# Altium integrated library Maxim Digital Potentiometers.IntLib: 1045 symbols (part 42 of 42)
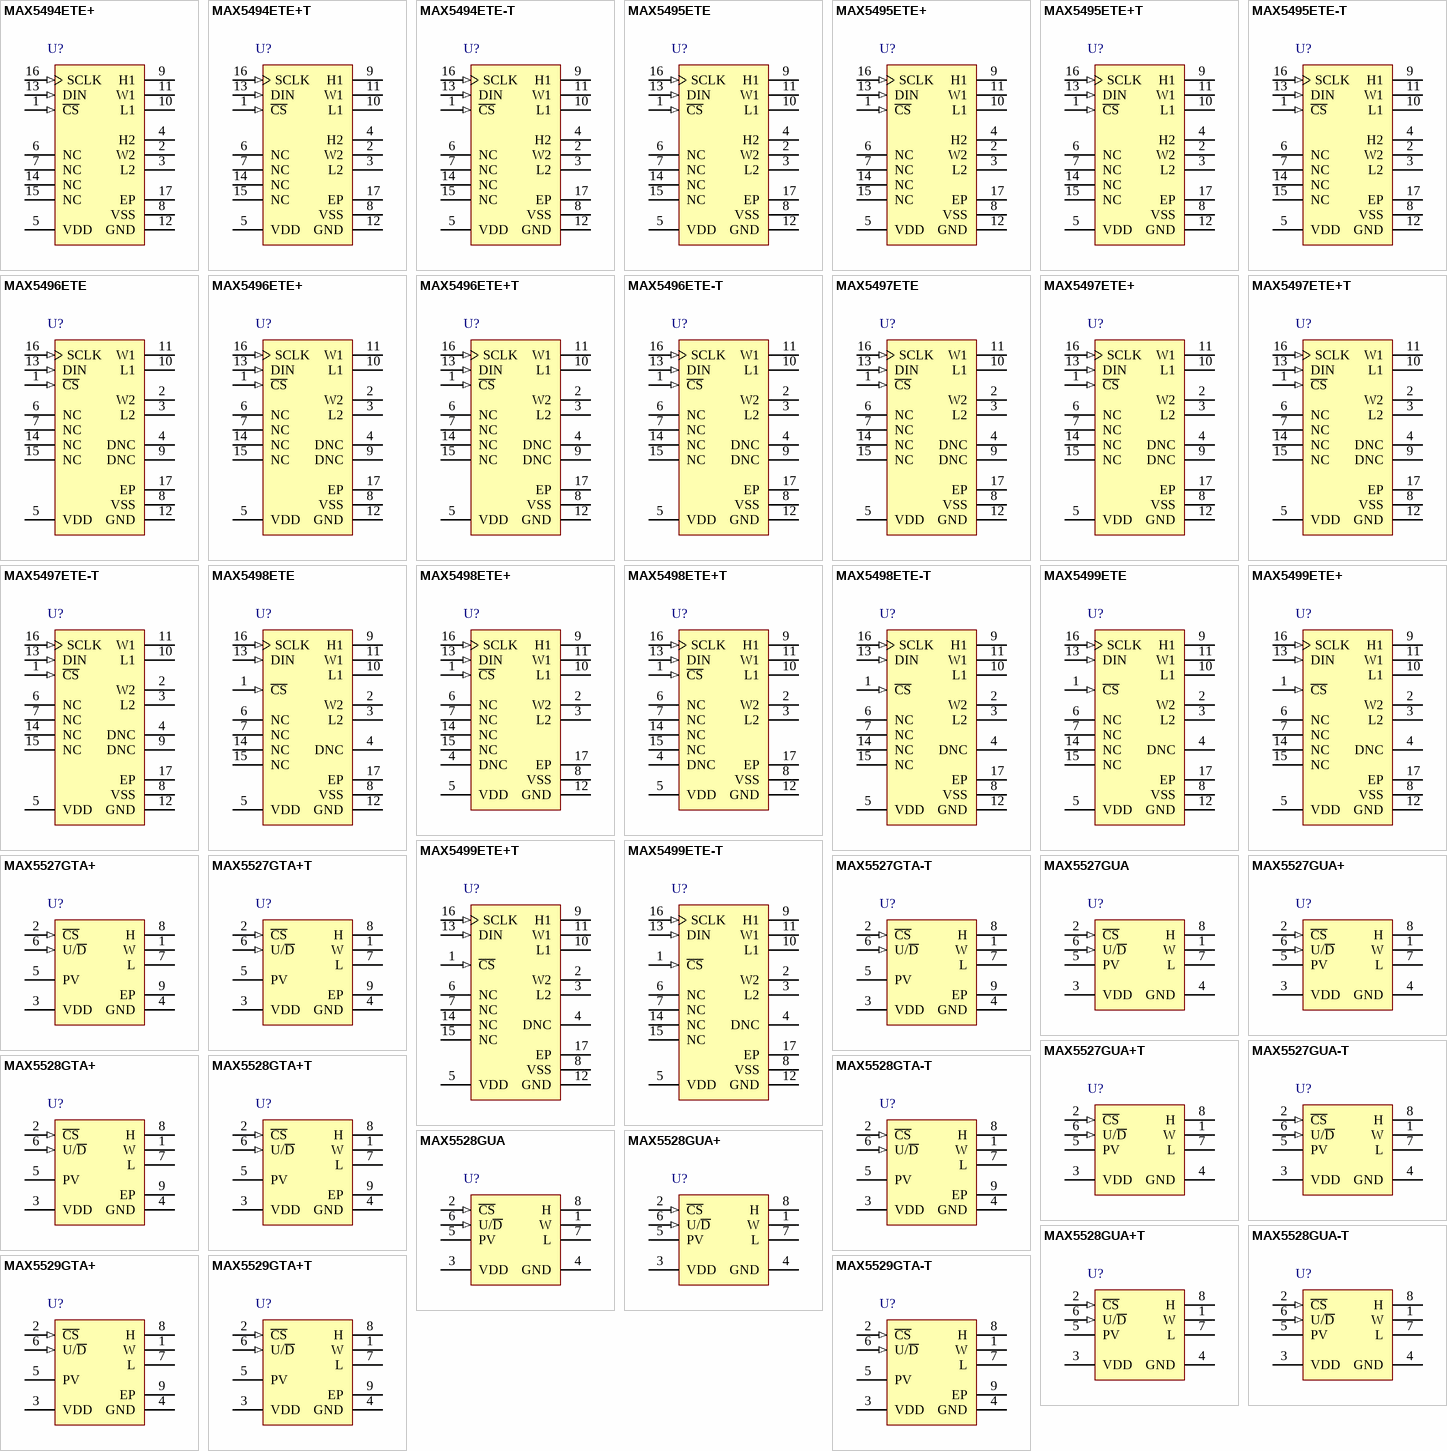
[diagram p70: symbols MAX5494ETE+ to MAX5529GTA-T]

## MAX5528GTA+
designator U?
50k Digital Potentiometer with Up/Down Control Interface, Non-Volatile OTP, Linear Taper, 64 Steps, 0 to 85 degC, 8-pin TDFN-EP (T833+2), Pb-Free,; PartNumber: MAX5528GTA+; DatasheetVersion: Rev. 1; PackageVersion: Rev. J, 08/2009; PackageReference: T833+2; PackageDescription: 8-Pin Plastic Very Very Thin Dual Flatpack No Leads, Exposed Pad (T833+2); Supplier 1: Mouser; Supplier Part Number 1: N/A; Control Interface: Up/Down; Features: One Time Programmable; Mounting Technology: Surface Mount; Code_JEDEC: MO229; ComponentLink1Description: Manufacturer URL; ComponentLink1URL: http://www.maximintegrated.com/; ComponentLink2Description: Datasheet; ComponentLink2URL: http://datasheets.maximintegrated.com/en/ds/MAX5527-MAX5529.pdf; ComponentLink3Description: Package Specification; ComponentLink3URL: http://pdfserv.maximintegrated.com/package_dwgs/21-0137.PDF
footprint MAXM-T833+2_V (SON, 8-Leads, Body 3x3 mm, Pitch 0.65mm, Thermal Pad 2.3x1.5mm)
pins: 1 W "Wiper Connection", 2 ~{CS} (in) "Chip-Select Input. A high-to-low C\S\ transition determines the increment/decrement mode. Increment if U/D\ is high, or decrement if U/D\ is low. C\S\ is also used for one-time programming. See the PV One- Time Programming (See Datasheet)", 3 VDD (power) "Supply Voltage. Bypass with a 0.1uF capacitor to GND.", 4 GND (power) "Ground", 5 PV "One-Time Programming Voltage. Connect PV to an 11V supply at the time the device is programmed/locked, and bypass with a 22uF capacitor to GND. For normal operation, connect to GND or leave floating.", 6 U/~{D} (in) "Up/Down Control Input. When C\S\ is low, a low-to-high transition at U/D\ increments or decrements the wiper position. See the Digital Interface Operation section.", 7 L "Resistor Low Terminal", 8 H "Resistor High Terminal", 9 EP (power) "Exposed Pad (TDFN Only). Internally connected to GND. Connect to a large ground plane to maximize thermal dissipation."

## MAX5528GTA+T
designator U?
50k Digital Potentiometer with Up/Down Control Interface, Non-Volatile OTP, Linear Taper, 64 Steps, 0 to 85 degC, 8-pin TDFN-EP (T833+2), Pb-Free, Tape and Reel; PartNumber: MAX5528GTA+T; DatasheetVersion: Rev. 1; PackageVersion: Rev. J, 08/2009; PackageReference: T833+2; PackageDescription: 8-Pin Plastic Very Very Thin Dual Flatpack No Leads, Exposed Pad (T833+2); Supplier 1: Digi-Key; Supplier Part Number 1: MAX5528GTA+T-ND; Supplier 2: Mouser; Supplier Part Number 2: 700-MAX5528GTAT; Control Interface: Up/Down; Features: One Time Programmable; Mounting Technology: Surface Mount; Code_JEDEC: MO229; ComponentLink1Description: Manufacturer URL; ComponentLink1URL: http://www.maximintegrated.com/; ComponentLink2Description: Datasheet; ComponentLink2URL: http://datasheets.maximintegrated.com/en/ds/MAX5527-MAX5529.pdf; ComponentLink3Description: Package Specification; ComponentLink3URL: http://pdfserv.maximintegrated.com/package_dwgs/21-0137.PDF
footprint MAXM-T833+2_V (SON, 8-Leads, Body 3x3 mm, Pitch 0.65mm, Thermal Pad 2.3x1.5mm)
pins: 1 W "Wiper Connection", 2 ~{CS} (in) "Chip-Select Input. A high-to-low C\S\ transition determines the increment/decrement mode. Increment if U/D\ is high, or decrement if U/D\ is low. C\S\ is also used for one-time programming. See the PV One- Time Programming (See Datasheet)", 3 VDD (power) "Supply Voltage. Bypass with a 0.1uF capacitor to GND.", 4 GND (power) "Ground", 5 PV "One-Time Programming Voltage. Connect PV to an 11V supply at the time the device is programmed/locked, and bypass with a 22uF capacitor to GND. For normal operation, connect to GND or leave floating.", 6 U/~{D} (in) "Up/Down Control Input. When C\S\ is low, a low-to-high transition at U/D\ increments or decrements the wiper position. See the Digital Interface Operation section.", 7 L "Resistor Low Terminal", 8 H "Resistor High Terminal", 9 EP (power) "Exposed Pad (TDFN Only). Internally connected to GND. Connect to a large ground plane to maximize thermal dissipation."

## MAX5528GTA-T
designator U?
50k Digital Potentiometer with Up/Down Control Interface, Non-Volatile OTP, Linear Taper, 64 Steps, 0 to 85 degC, 8-pin TDFN-EP (T833-2), Tape and Reel; PartNumber: MAX5528GTA-T; DatasheetVersion: Rev. 1; PackageVersion: Rev. J, 08/2009; PackageReference: T833-2; PackageDescription: 8-Pin Plastic Very Very Thin Dual Flatpack No Leads, Exposed Pad, Body 3 x 3 mm, Pitch 0.65 mm; Supplier 1: Mouser; Supplier Part Number 1: N/A; Control Interface: Up/Down; Features: One Time Programmable; Mounting Technology: Surface Mount; Code_JEDEC: MO229; ComponentLink1Description: Manufacturer URL; ComponentLink1URL: http://www.maximintegrated.com/; ComponentLink2Description: Datasheet; ComponentLink2URL: http://datasheets.maximintegrated.com/en/ds/MAX5527-MAX5529.pdf; ComponentLink3Description: Package Specification; ComponentLink3URL: http://pdfserv.maximintegrated.com/package_dwgs/21-0137.PDF
footprint MAXM-T833-2_V (SON, 8-Leads, Body 3x3mm, Pitch 0.65mm, Thermal Pad 2.3x1.5mm, Recommended)
pins: 1 W "Wiper Connection", 2 ~{CS} (in) "Chip-Select Input. A high-to-low C\S\ transition determines the increment/decrement mode. Increment if U/D\ is high, or decrement if U/D\ is low. C\S\ is also used for one-time programming. See the PV One- Time Programming (See Datasheet)", 3 VDD (power) "Supply Voltage. Bypass with a 0.1uF capacitor to GND.", 4 GND (power) "Ground", 5 PV "One-Time Programming Voltage. Connect PV to an 11V supply at the time the device is programmed/locked, and bypass with a 22uF capacitor to GND. For normal operation, connect to GND or leave floating.", 6 U/~{D} (in) "Up/Down Control Input. When C\S\ is low, a low-to-high transition at U/D\ increments or decrements the wiper position. See the Digital Interface Operation section.", 7 L "Resistor Low Terminal", 8 H "Resistor High Terminal", 9 EP (power) "Exposed Pad (TDFN Only). Internally connected to GND. Connect to a large ground plane to maximize thermal dissipation."

## MAX5528GUA
designator U?
50k Digital Potentiometer with Up/Down Control Interface, Non-Volatile OTP, Linear Taper, 64 Steps, 0 to 85 degC, 8-pin uMAX (U8-1); PartNumber: MAX5528GUA; DatasheetVersion: Rev. 1; PackageVersion: Rev. L, 08/2009; PackageReference: U8-1; PackageDescription: 8-Pin Micro-MAX, Thin Shrink Small-Outline (U8-1), Body 3 x 3 mm, Pitch 0.65mm; Supplier 1: Mouser; Supplier Part Number 1: N/A; Control Interface: Up/Down; Features: One Time Programmable; Mounting Technology: Surface Mount; Code_JEDEC: MO-187; ComponentLink1Description: Manufacturer URL; ComponentLink1URL: http://www.maximintegrated.com/; ComponentLink2Description: Datasheet; ComponentLink2URL: http://datasheets.maximintegrated.com/en/ds/MAX5527-MAX5529.pdf; ComponentLink3Description: Package Specification; ComponentLink3URL: http://pdfserv.maximintegrated.com/package_dwgs/21-0036.PDF
footprint MAXM-U8-1_N (SOP, 8-Leads, Body 3x3mm, Pitch 0.65mm, IPC Medium Density)
footprint MAXM-U8-1_L (SOP, 8-Leads, Body 3x3mm, Pitch 0.65mm, IPC High Density)
footprint MAXM-U8-1_M (SOP, 8-Leads, Body 3x3mm, Pitch 0.65mm, IPC Low Density)
pins: 1 W "Wiper Connection", 2 ~{CS} (in) "Chip-Select Input. A high-to-low C\S\ transition determines the increment/decrement mode. Increment if U/D\ is high, or decrement if U/D\ is low. C\S\ is also used for one-time programming. See the PV One-Time Programming (See Datasheet)", 3 VDD (power) "Supply Voltage. Bypass with a 0.1uF capacitor to GND.", 4 GND (power) "Ground", 5 PV "One-Time Programming Voltage. Connect PV to an 11V supply at the time the device is programmed/locked, and bypass with a 22uF capacitor to GND. For normal operation, connect to GND or leave floating.", 6 U/~{D} (in) "Up/Down Control Input. When C\S\ is low, a low-to-high transition at U/D\ increments or decrements the wiper position. See the Digital Interface Operation section.", 7 L "Resistor Low Terminal", 8 H "Resistor High Terminal"

## MAX5528GUA+
designator U?
50k Digital Potentiometer with Up/Down Control Interface, Non-Volatile OTP, Linear Taper, 64 Steps, 0 to 85 degC, 8-pin uMAX (U8+1), Pb-Free; PartNumber: MAX5528GUA+; DatasheetVersion: Rev. 1; PackageVersion: Rev. L, 08/2009; PackageReference: U8+1; PackageDescription: 8-Pin Micro-MAX, Thin Shrink Small-Outline (U8+1), Body 3 x 3 mm, Pitch 0.65 mm; Supplier 1: Digi-Key; Supplier Part Number 1: MAX5528GUA+-ND; Supplier 2: Mouser; Supplier Part Number 2: 700-MAX5528GUA; Control Interface: Up/Down; Features: One Time Programmable; Mounting Technology: Surface Mount; Code_JEDEC: MO-187; ComponentLink1Description: Manufacturer URL; ComponentLink1URL: http://www.maximintegrated.com/; ComponentLink2Description: Datasheet; ComponentLink2URL: http://datasheets.maximintegrated.com/en/ds/MAX5527-MAX5529.pdf; ComponentLink3Description: Package Specification; ComponentLink3URL: http://pdfserv.maximintegrated.com/package_dwgs/21-0036.PDF
footprint MAXM-U8+1_N (SOP, 8-Leads, Body 3x3mm, Pitch 0.65mm, IPC Medium Density)
footprint MAXM-U8+1_L (SOP, 8-Leads, Body 3x3mm, Pitch 0.65mm, IPC High Density)
footprint MAXM-U8+1_M (SOP, 8-Leads, Body 3x3mm, Pitch 0.65mm, IPC Low Density)
pins: 1 W "Wiper Connection", 2 ~{CS} (in) "Chip-Select Input. A high-to-low C\S\ transition determines the increment/decrement mode. Increment if U/D\ is high, or decrement if U/D\ is low. C\S\ is also used for one-time programming. See the PV One-Time Programming (See Datasheet)", 3 VDD (power) "Supply Voltage. Bypass with a 0.1uF capacitor to GND.", 4 GND (power) "Ground", 5 PV "One-Time Programming Voltage. Connect PV to an 11V supply at the time the device is programmed/locked, and bypass with a 22uF capacitor to GND. For normal operation, connect to GND or leave floating.", 6 U/~{D} (in) "Up/Down Control Input. When C\S\ is low, a low-to-high transition at U/D\ increments or decrements the wiper position. See the Digital Interface Operation section.", 7 L "Resistor Low Terminal", 8 H "Resistor High Terminal"

## MAX5528GUA+T
designator U?
50k One-Time-Programmable Digital Potentiometer with Up/Down Control Interface, Non-Volatile OTP, Linear Taper, 64 Steps, 0 to 85 degC, 8-pin uMAX (U8+1), Pb-Free, Tape and Reel; PartNumber: MAX5528GUA+T; DatasheetVersion: Rev. 1; PackageVersion: Rev. L, 08/2009; PackageReference: U8+1; PackageDescription: 8-Pin Micro-MAX, Thin Shrink Small-Outline (U8+1), Body 3 x 3 mm, Pitch 0.65 mm; Supplier 1: Digi-Key; Supplier Part Number 1: MAX5528GUA+T-ND; Supplier 2: Mouser; Supplier Part Number 2: 700-MAX5528GUAT; Control Interface: Up/Down; Features: One Time Programmable; Mounting Technology: Surface Mount; Code_JEDEC: MO-187; ComponentLink1Description: Manufacturer URL; ComponentLink1URL: http://www.maximintegrated.com/; ComponentLink2Description: Datasheet; ComponentLink2URL: http://datasheets.maximintegrated.com/en/ds/MAX5527-MAX5529.pdf; ComponentLink3Description: Package Specification; ComponentLink3URL: http://pdfserv.maximintegrated.com/package_dwgs/21-0036.PDF
footprint MAXM-U8+1_N (SOP, 8-Leads, Body 3x3mm, Pitch 0.65mm, IPC Medium Density)
footprint MAXM-U8+1_L (SOP, 8-Leads, Body 3x3mm, Pitch 0.65mm, IPC High Density)
footprint MAXM-U8+1_M (SOP, 8-Leads, Body 3x3mm, Pitch 0.65mm, IPC Low Density)
pins: 1 W "Wiper Connection", 2 ~{CS} (in) "Chip-Select Input. A high-to-low C\S\ transition determines the increment/decrement mode. Increment if U/D\ is high, or decrement if U/D\ is low. C\S\ is also used for one-time programming. See the PV One-Time Programming (See Datasheet)", 3 VDD (power) "Supply Voltage. Bypass with a 0.1uF capacitor to GND.", 4 GND (power) "Ground", 5 PV "One-Time Programming Voltage. Connect PV to an 11V supply at the time the device is programmed/locked, and bypass with a 22uF capacitor to GND. For normal operation, connect to GND or leave floating.", 6 U/~{D} (in) "Up/Down Control Input. When C\S\ is low, a low-to-high transition at U/D\ increments or decrements the wiper position. See the Digital Interface Operation section.", 7 L "Resistor Low Terminal", 8 H "Resistor High Terminal"

## MAX5528GUA-T
designator U?
50k One-Time-Programmable Digital Potentiometer with Up/Down Control Interface, Non-Volatile OTP, Linear Taper, 64 Steps, 0 to 85 degC, 8-pin uMAX (U8-1), Tape and Reel; PartNumber: MAX5528GUA-T; DatasheetVersion: Rev. 1; PackageVersion: Rev. L, 08/2009; PackageReference: U8-1; PackageDescription: 8-Pin Micro-MAX, Thin Shrink Small-Outline (U8-1), Body 3 x 3 mm, Pitch 0.65mm; Supplier 1: Mouser; Supplier Part Number 1: N/A; Control Interface: Up/Down; Features: One Time Programmable; Mounting Technology: Surface Mount; Code_JEDEC: MO-187; ComponentLink1Description: Manufacturer URL; ComponentLink1URL: http://www.maximintegrated.com/; ComponentLink2Description: Datasheet; ComponentLink2URL: http://datasheets.maximintegrated.com/en/ds/MAX5527-MAX5529.pdf; ComponentLink3Description: Package Specification; ComponentLink3URL: http://pdfserv.maximintegrated.com/package_dwgs/21-0036.PDF
footprint MAXM-U8-1_N (SOP, 8-Leads, Body 3x3mm, Pitch 0.65mm, IPC Medium Density)
footprint MAXM-U8-1_L (SOP, 8-Leads, Body 3x3mm, Pitch 0.65mm, IPC High Density)
footprint MAXM-U8-1_M (SOP, 8-Leads, Body 3x3mm, Pitch 0.65mm, IPC Low Density)
pins: 1 W "Wiper Connection", 2 ~{CS} (in) "Chip-Select Input. A high-to-low C\S\ transition determines the increment/decrement mode. Increment if U/D\ is high, or decrement if U/D\ is low. C\S\ is also used for one-time programming. See the PV One-Time Programming (See Datasheet)", 3 VDD (power) "Supply Voltage. Bypass with a 0.1uF capacitor to GND.", 4 GND (power) "Ground", 5 PV "One-Time Programming Voltage. Connect PV to an 11V supply at the time the device is programmed/locked, and bypass with a 22uF capacitor to GND. For normal operation, connect to GND or leave floating.", 6 U/~{D} (in) "Up/Down Control Input. When C\S\ is low, a low-to-high transition at U/D\ increments or decrements the wiper position. See the Digital Interface Operation section.", 7 L "Resistor Low Terminal", 8 H "Resistor High Terminal"

## MAX5529GTA+
designator U?
10k Digital Potentiometer with Up/Down Control Interface, Non-Volatile OTP, Linear Taper, 64 Steps, 0 to 85 degC, 8-pin TDFN-EP (T833+2), Pb-Free; PartNumber: MAX5529GTA+; Industry Qualified: Automotive - AECQ100, Automotive - General; DatasheetVersion: Rev. 1; PackageVersion: Rev. J, 08/2009; PackageReference: T833+2; PackageDescription: 8-Pin Plastic Very Very Thin Dual Flatpack No Leads, Exposed Pad (T833+2); Supplier 1: Mouser; Supplier Part Number 1: N/A; Control Interface: Up/Down; Features: One Time Programmable; Mounting Technology: Surface Mount; Code_JEDEC: MO229; ComponentLink1Description: Manufacturer URL; ComponentLink1URL: http://www.maximintegrated.com/; ComponentLink2Description: Datasheet; ComponentLink2URL: http://datasheets.maximintegrated.com/en/ds/MAX5527-MAX5529.pdf; ComponentLink3Description: Package Specification; ComponentLink3URL: http://pdfserv.maximintegrated.com/package_dwgs/21-0137.PDF
footprint MAXM-T833+2_V (SON, 8-Leads, Body 3x3 mm, Pitch 0.65mm, Thermal Pad 2.3x1.5mm)
pins: 1 W "Wiper Connection", 2 ~{CS} (in) "Chip-Select Input. A high-to-low C\S\ transition determines the increment/decrement mode. Increment if U/D\ is high, or decrement if U/D\ is low. C\S\ is also used for one-time programming. See the PV One- Time Programming (See Datasheet)", 3 VDD (power) "Supply Voltage. Bypass with a 0.1uF capacitor to GND.", 4 GND (power) "Ground", 5 PV "One-Time Programming Voltage. Connect PV to an 11V supply at the time the device is programmed/locked, and bypass with a 22uF capacitor to GND. For normal operation, connect to GND or leave floating.", 6 U/~{D} (in) "Up/Down Control Input. When C\S\ is low, a low-to-high transition at U/D\ increments or decrements the wiper position. See the Digital Interface Operation section.", 7 L "Resistor Low Terminal", 8 H "Resistor High Terminal", 9 EP (power) "Exposed Pad (TDFN Only). Internally connected to GND. Connect to a large ground plane to maximize thermal dissipation."

## MAX5529GTA+T
designator U?
10k Digital Potentiometer with Up/Down Control Interface, Non-Volatile OTP, Linear Taper, 64 Steps, 0 to 85 degC, 8-pin TDFN-EP (T833+2), Pb-Free, Tape and Reel; PartNumber: MAX5529GTA+T; Industry Qualified: Automotive - AECQ100, Automotive - General; DatasheetVersion: Rev. 1; PackageVersion: Rev. J, 08/2009; PackageReference: T833+2; PackageDescription: 8-Pin Plastic Very Very Thin Dual Flatpack No Leads, Exposed Pad (T833+2); Supplier 1: Digi-Key; Supplier Part Number 1: MAX5529GTA+T-ND; Supplier 2: Mouser; Supplier Part Number 2: 700-MAX5529GTAT; Control Interface: Up/Down; Features: One Time Programmable; Mounting Technology: Surface Mount; Code_JEDEC: MO229; ComponentLink1Description: Manufacturer URL; ComponentLink1URL: http://www.maximintegrated.com/; ComponentLink2Description: Datasheet; ComponentLink2URL: http://datasheets.maximintegrated.com/en/ds/MAX5527-MAX5529.pdf; ComponentLink3Description: Package Specification; ComponentLink3URL: http://pdfserv.maximintegrated.com/package_dwgs/21-0137.PDF
footprint MAXM-T833+2_V (SON, 8-Leads, Body 3x3 mm, Pitch 0.65mm, Thermal Pad 2.3x1.5mm)
pins: 1 W "Wiper Connection", 2 ~{CS} (in) "Chip-Select Input. A high-to-low C\S\ transition determines the increment/decrement mode. Increment if U/D\ is high, or decrement if U/D\ is low. C\S\ is also used for one-time programming. See the PV One- Time Programming (See Datasheet)", 3 VDD (power) "Supply Voltage. Bypass with a 0.1uF capacitor to GND.", 4 GND (power) "Ground", 5 PV "One-Time Programming Voltage. Connect PV to an 11V supply at the time the device is programmed/locked, and bypass with a 22uF capacitor to GND. For normal operation, connect to GND or leave floating.", 6 U/~{D} (in) "Up/Down Control Input. When C\S\ is low, a low-to-high transition at U/D\ increments or decrements the wiper position. See the Digital Interface Operation section.", 7 L "Resistor Low Terminal", 8 H "Resistor High Terminal", 9 EP (power) "Exposed Pad (TDFN Only). Internally connected to GND. Connect to a large ground plane to maximize thermal dissipation."

## MAX5529GTA-T
designator U?
10k Digital Potentiometer with Up/Down Control Interface, Non-Volatile OTP, Linear Taper, 64 Steps, 0 to 85 degC, 8-pin TDFN-EP (T833-2), Tape and Reel; PartNumber: MAX5529GTA-T; Industry Qualified: Automotive - AECQ100, Automotive - General; DatasheetVersion: Rev. 1; PackageVersion: Rev. J, 08/2009; PackageReference: T833-2; PackageDescription: 8-Pin Plastic Very Very Thin Dual Flatpack No Leads, Exposed Pad, Body 3 x 3 mm, Pitch 0.65 mm; Supplier 1: Mouser; Supplier Part Number 1: N/A; Control Interface: Up/Down; Features: One Time Programmable; Mounting Technology: Surface Mount; Code_JEDEC: MO229; ComponentLink1Description: Manufacturer URL; ComponentLink1URL: http://www.maximintegrated.com/; ComponentLink2Description: Datasheet; ComponentLink2URL: http://datasheets.maximintegrated.com/en/ds/MAX5527-MAX5529.pdf; ComponentLink3Description: Package Specification; ComponentLink3URL: http://pdfserv.maximintegrated.com/package_dwgs/21-0137.PDF
footprint MAXM-T833-2_V (SON, 8-Leads, Body 3x3mm, Pitch 0.65mm, Thermal Pad 2.3x1.5mm, Recommended)
pins: 1 W "Wiper Connection", 2 ~{CS} (in) "Chip-Select Input. A high-to-low C\S\ transition determines the increment/decrement mode. Increment if U/D\ is high, or decrement if U/D\ is low. C\S\ is also used for one-time programming. See the PV One- Time Programming (See Datasheet)", 3 VDD (power) "Supply Voltage. Bypass with a 0.1uF capacitor to GND.", 4 GND (power) "Ground", 5 PV "One-Time Programming Voltage. Connect PV to an 11V supply at the time the device is programmed/locked, and bypass with a 22uF capacitor to GND. For normal operation, connect to GND or leave floating.", 6 U/~{D} (in) "Up/Down Control Input. When C\S\ is low, a low-to-high transition at U/D\ increments or decrements the wiper position. See the Digital Interface Operation section.", 7 L "Resistor Low Terminal", 8 H "Resistor High Terminal", 9 EP (power) "Exposed Pad (TDFN Only). Internally connected to GND. Connect to a large ground plane to maximize thermal dissipation."

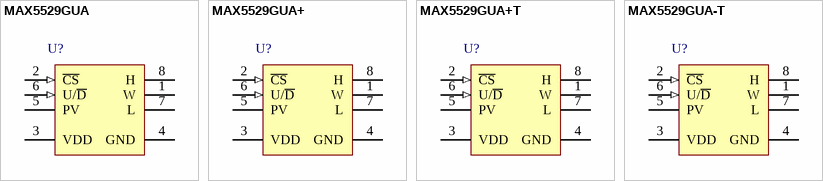
[diagram p29: symbols MAX5529GUA to MAX5529GUA-T]

## MAX5529GUA
designator U?
10k Digital Potentiometer with Up/Down Control Interface, Non-Volatile OTP, Linear Taper, 64 Steps, 0 to 85 degC, 8-pin uMAX (U8-1); PartNumber: MAX5529GUA; Industry Qualified: Automotive - AECQ100, Automotive - General; DatasheetVersion: Rev. 1; PackageVersion: Rev. L, 08/2009; PackageReference: U8-1; PackageDescription: 8-Pin Micro-MAX, Thin Shrink Small-Outline (U8-1), Body 3 x 3 mm, Pitch 0.65mm; Supplier 1: Mouser; Supplier Part Number 1: N/A; Control Interface: Up/Down; Features: One Time Programmable; Mounting Technology: Surface Mount; Code_JEDEC: MO-187; ComponentLink1Description: Manufacturer URL; ComponentLink1URL: http://www.maximintegrated.com/; ComponentLink2Description: Datasheet; ComponentLink2URL: http://datasheets.maximintegrated.com/en/ds/MAX5527-MAX5529.pdf; ComponentLink3Description: Package Specification; ComponentLink3URL: http://pdfserv.maximintegrated.com/package_dwgs/21-0036.PDF
footprint MAXM-U8-1_N (SOP, 8-Leads, Body 3x3mm, Pitch 0.65mm, IPC Medium Density)
footprint MAXM-U8-1_L (SOP, 8-Leads, Body 3x3mm, Pitch 0.65mm, IPC High Density)
footprint MAXM-U8-1_M (SOP, 8-Leads, Body 3x3mm, Pitch 0.65mm, IPC Low Density)
pins: 1 W "Wiper Connection", 2 ~{CS} (in) "Chip-Select Input. A high-to-low C\S\ transition determines the increment/decrement mode. Increment if U/D\ is high, or decrement if U/D\ is low. C\S\ is also used for one-time programming. See the PV One-Time Programming (See Datasheet)", 3 VDD (power) "Supply Voltage. Bypass with a 0.1uF capacitor to GND.", 4 GND (power) "Ground", 5 PV "One-Time Programming Voltage. Connect PV to an 11V supply at the time the device is programmed/locked, and bypass with a 22uF capacitor to GND. For normal operation, connect to GND or leave floating.", 6 U/~{D} (in) "Up/Down Control Input. When C\S\ is low, a low-to-high transition at U/D\ increments or decrements the wiper position. See the Digital Interface Operation section.", 7 L "Resistor Low Terminal", 8 H "Resistor High Terminal"

## MAX5529GUA+
designator U?
10k Digital Potentiometer with Up/Down Control Interface, Non-Volatile OTP, Linear Taper, 64 Steps, 0 to 85 degC, 8-pin uMAX (U8+1), Pb-Free; PartNumber: MAX5529GUA+; Industry Qualified: Automotive - AECQ100, Automotive - General; DatasheetVersion: Rev. 1; PackageVersion: Rev. L, 08/2009; PackageReference: U8+1; PackageDescription: 8-Pin Micro-MAX, Thin Shrink Small-Outline (U8+1), Body 3 x 3 mm, Pitch 0.65 mm; Supplier 1: Digi-Key; Supplier Part Number 1: MAX5529GUA+-ND; Supplier 2: Mouser; Supplier Part Number 2: 700-MAX5529GUA; Control Interface: Up/Down; Features: One Time Programmable; Mounting Technology: Surface Mount; Code_JEDEC: MO-187; ComponentLink1Description: Manufacturer URL; ComponentLink1URL: http://www.maximintegrated.com/; ComponentLink2Description: Datasheet; ComponentLink2URL: http://datasheets.maximintegrated.com/en/ds/MAX5527-MAX5529.pdf; ComponentLink3Description: Package Specification; ComponentLink3URL: http://pdfserv.maximintegrated.com/package_dwgs/21-0036.PDF
footprint MAXM-U8+1_N (SOP, 8-Leads, Body 3x3mm, Pitch 0.65mm, IPC Medium Density)
footprint MAXM-U8+1_L (SOP, 8-Leads, Body 3x3mm, Pitch 0.65mm, IPC High Density)
footprint MAXM-U8+1_M (SOP, 8-Leads, Body 3x3mm, Pitch 0.65mm, IPC Low Density)
pins: 1 W "Wiper Connection", 2 ~{CS} (in) "Chip-Select Input. A high-to-low C\S\ transition determines the increment/decrement mode. Increment if U/D\ is high, or decrement if U/D\ is low. C\S\ is also used for one-time programming. See the PV One-Time Programming (See Datasheet)", 3 VDD (power) "Supply Voltage. Bypass with a 0.1uF capacitor to GND.", 4 GND (power) "Ground", 5 PV "One-Time Programming Voltage. Connect PV to an 11V supply at the time the device is programmed/locked, and bypass with a 22uF capacitor to GND. For normal operation, connect to GND or leave floating.", 6 U/~{D} (in) "Up/Down Control Input. When C\S\ is low, a low-to-high transition at U/D\ increments or decrements the wiper position. See the Digital Interface Operation section.", 7 L "Resistor Low Terminal", 8 H "Resistor High Terminal"

## MAX5529GUA+T
designator U?
10k Digital Potentiometer with Up/Down Control Interface, Non-Volatile OTP, Linear Taper, 64 Steps, 0 to 85 degC, 8-pin uMAX (U8+1), Pb-Free, Tape and Reel; PartNumber: MAX5529GUA+T; Industry Qualified: Automotive - AECQ100, Automotive - General; DatasheetVersion: Rev. 1; PackageVersion: Rev. L, 08/2009; PackageReference: U8+1; PackageDescription: 8-Pin Micro-MAX, Thin Shrink Small-Outline (U8+1), Body 3 x 3 mm, Pitch 0.65 mm; Supplier 1: Digi-Key; Supplier Part Number 1: MAX5529GUA+T-ND; Supplier 2: Mouser; Supplier Part Number 2: 700-MAX5529GUAT; Control Interface: Up/Down; Features: One Time Programmable; Mounting Technology: Surface Mount; Code_JEDEC: MO-187; ComponentLink1Description: Manufacturer URL; ComponentLink1URL: http://www.maximintegrated.com/; ComponentLink2Description: Datasheet; ComponentLink2URL: http://datasheets.maximintegrated.com/en/ds/MAX5527-MAX5529.pdf; ComponentLink3Description: Package Specification; ComponentLink3URL: http://pdfserv.maximintegrated.com/package_dwgs/21-0036.PDF
footprint MAXM-U8+1_N (SOP, 8-Leads, Body 3x3mm, Pitch 0.65mm, IPC Medium Density)
footprint MAXM-U8+1_L (SOP, 8-Leads, Body 3x3mm, Pitch 0.65mm, IPC High Density)
footprint MAXM-U8+1_M (SOP, 8-Leads, Body 3x3mm, Pitch 0.65mm, IPC Low Density)
pins: 1 W "Wiper Connection", 2 ~{CS} (in) "Chip-Select Input. A high-to-low C\S\ transition determines the increment/decrement mode. Increment if U/D\ is high, or decrement if U/D\ is low. C\S\ is also used for one-time programming. See the PV One-Time Programming (See Datasheet)", 3 VDD (power) "Supply Voltage. Bypass with a 0.1uF capacitor to GND.", 4 GND (power) "Ground", 5 PV "One-Time Programming Voltage. Connect PV to an 11V supply at the time the device is programmed/locked, and bypass with a 22uF capacitor to GND. For normal operation, connect to GND or leave floating.", 6 U/~{D} (in) "Up/Down Control Input. When C\S\ is low, a low-to-high transition at U/D\ increments or decrements the wiper position. See the Digital Interface Operation section.", 7 L "Resistor Low Terminal", 8 H "Resistor High Terminal"

## MAX5529GUA-T
designator U?
10k Digital Potentiometer with Up/Down Control Interface, Non-Volatile OTP, Linear Taper, 64 Steps, 0 to 85 degC, 8-pin uMAX (U8-1), Tape and Reel; PartNumber: MAX5529GUA-T; Industry Qualified: Automotive - AECQ100, Automotive - General; DatasheetVersion: Rev. 1; PackageVersion: Rev. L, 08/2009; PackageReference: U8-1; PackageDescription: 8-Pin Micro-MAX, Thin Shrink Small-Outline (U8-1), Body 3 x 3 mm, Pitch 0.65mm; Supplier 1: Mouser; Supplier Part Number 1: N/A; Control Interface: Up/Down; Features: One Time Programmable; Mounting Technology: Surface Mount; Code_JEDEC: MO-187; ComponentLink1Description: Manufacturer URL; ComponentLink1URL: http://www.maximintegrated.com/; ComponentLink2Description: Datasheet; ComponentLink2URL: http://datasheets.maximintegrated.com/en/ds/MAX5527-MAX5529.pdf; ComponentLink3Description: Package Specification; ComponentLink3URL: http://pdfserv.maximintegrated.com/package_dwgs/21-0036.PDF
footprint MAXM-U8-1_N (SOP, 8-Leads, Body 3x3mm, Pitch 0.65mm, IPC Medium Density)
footprint MAXM-U8-1_L (SOP, 8-Leads, Body 3x3mm, Pitch 0.65mm, IPC High Density)
footprint MAXM-U8-1_M (SOP, 8-Leads, Body 3x3mm, Pitch 0.65mm, IPC Low Density)
pins: 1 W "Wiper Connection", 2 ~{CS} (in) "Chip-Select Input. A high-to-low C\S\ transition determines the increment/decrement mode. Increment if U/D\ is high, or decrement if U/D\ is low. C\S\ is also used for one-time programming. See the PV One-Time Programming (See Datasheet)", 3 VDD (power) "Supply Voltage. Bypass with a 0.1uF capacitor to GND.", 4 GND (power) "Ground", 5 PV "One-Time Programming Voltage. Connect PV to an 11V supply at the time the device is programmed/locked, and bypass with a 22uF capacitor to GND. For normal operation, connect to GND or leave floating.", 6 U/~{D} (in) "Up/Down Control Input. When C\S\ is low, a low-to-high transition at U/D\ increments or decrements the wiper position. See the Digital Interface Operation section.", 7 L "Resistor Low Terminal", 8 H "Resistor High Terminal"